# Altium schematic symbol library Crystal, Oscillator.SchLib: 2 symbols
Pins are listed as number, name and electrical type; pins without a type are passive.

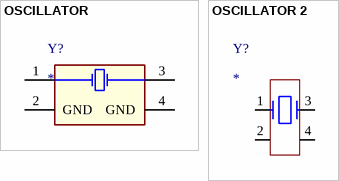
[diagram p0: symbols OSCILLATOR to OSCILLATOR 2]

## OSCILLATOR
designator Y?
8MHZ 12.5pF
footprint OSCILLATOR (8MHZ 12.5pF)
pins: 1 (power) "Regulator Input Supply. Bypass IN to GND with a 1 uF or greater capacitor.", 2 GND (power) "Ground.", 3 "Enable Input. Drive EN high to turn on the regulator; drive it low to turn off the regulator. For automatic startup, connect EN to IN.", 4 GND "Connect a 1 nF or greater capacitor (10 nF is recommended) between BYP and GND to reduce the internal reference noise for low noise applications."

## OSCILLATOR 2
designator Y?
8MHZ 12.5pF; ComponentLink1Description: Özdisan; ComponentLink1URL: https://ozdisan.com/pasif-komponentler/kristaller-osilatorler-ve-rezanatorler/kristaller/RH100-8-000-12-5-20150-E
footprint OSCILLATOR (8MHZ 12.5pF)
pins: 1, 2, 3, 4